# Altium integrated library TI Power Management Supervisor and Reset IC.IntLib: 819 symbols (part 29 of 30)
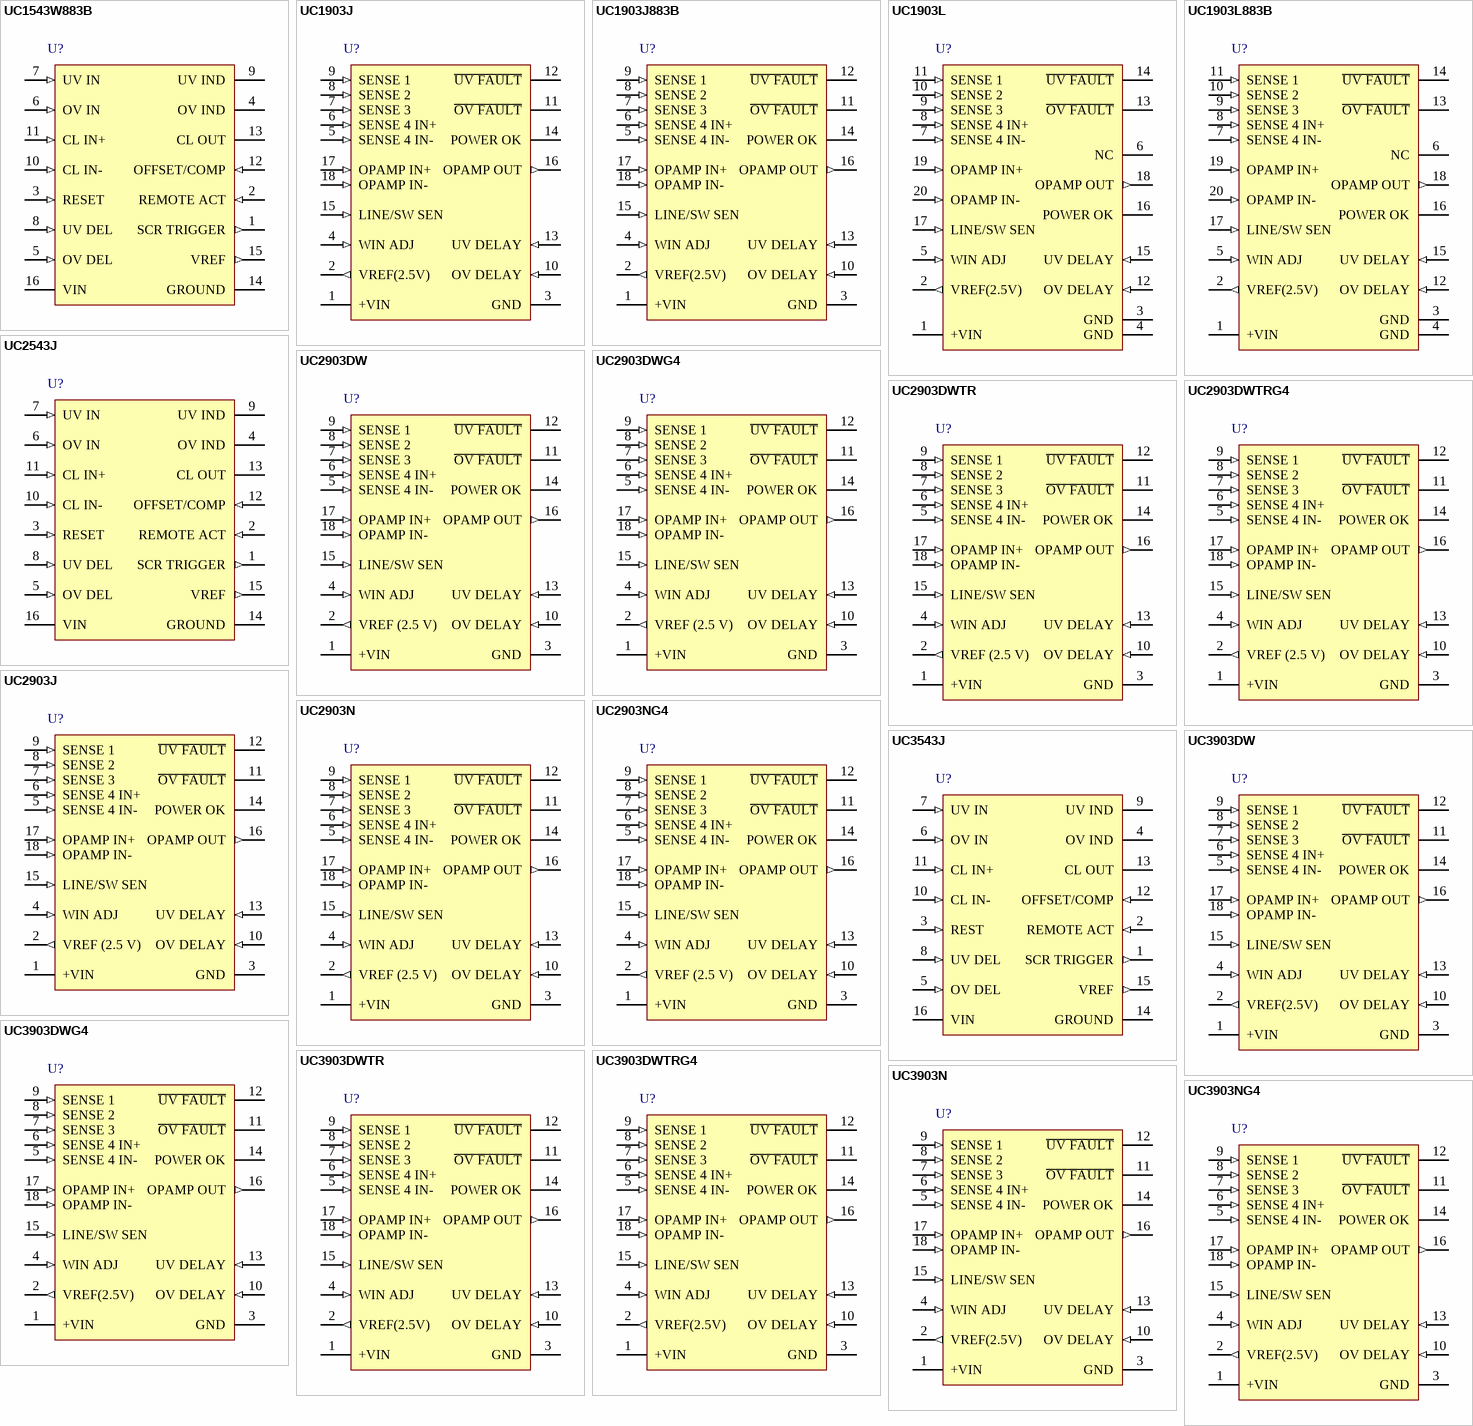
[diagram p49: symbols UC1543W883B to UC3903NG4]

## UC2903DWTRG4
designator U?
Quad Supply and Line Monitor, 4 Supply Monitored, -40 to 85 degC, 18-pin SOIC (DW), Green (RoHS & no Sb/Br); Manufacturer: Texas Instruments; PartNumber: UC2903DWTRG4; # of supplies monitored: 4; Iq(Typ)(uA): 7000; Output Driver Type / Reset Output: Active-low, Open-drain; Rating: Catalog; Reset Threshold Accuracy(%): 3; SubFamily: Supervisor and Reset IC; Threshold Voltage 1 (typ)(Typ)(V): 1.8; Threshold Voltage 2 (typ)(Typ)(V): Adjustable; Time Delay(ms): Programmable; VCC(Max)(V): 40; VCC(Min)(V): 8; DatasheetVersion: SLUS233A; PackageVersion: revG, Jan-2011; PackageReference: DW18; PackageDescription: 18-Pin Plastic Small Outline Integrated Circuit, 11.6 x 7.5 mm, Pitch 1.27 mm Pitch; Supplier 1: Digi-Key; Supplier Part Number 1: UC2903DWTRG4-ND; Supplier 2: Newark; Supplier Part Number 2: 63K6704; Supplier 3: Mouser; Supplier Part Number 3: 595-UC2903DWTRG4; Threshold Voltage 3 (typ)(Typ)(V): Adjustable; Threshold Voltage 4 (typ)(Typ)(V): Adjustable; Mounting Technology: Surface Mount; Code_JEDEC: MS-013-AB; ComponentLink1Description: Datasheet; ComponentLink1URL: http://www.ti.com/general/docs/lit/getliterature.tsp?genericPartNumber=UC2903&fileType=pdf
footprint DW18_N (SOIC, 18-Leads, Body 11.6x7.5mm, Pitch 1.27mm, IPC Medium Density)
footprint DW18_L (SOIC, 18-Leads, Body 11.6x7.5mm, Pitch 1.27mm, IPC High Density)
footprint DW18_M (SOIC, 18-Leads, Body 11.6x7.5mm, Pitch 1.27mm, IPC Low Density)
pins: 1 +VIN (power), 2 VREF (2.5 V) (out), 3 GND (power), 4 WIN ADJ (in), 5 SENSE 4 IN- (in), 6 SENSE 4 IN+ (in), 7 SENSE 3 (in), 8 SENSE 2 (in), 9 SENSE 1 (in), 10 OV DELAY (in), 11 ~{OV FAULT} (oc), 12 ~{UV FAULT} (oc), 13 UV DELAY (in), 14 POWER OK (oc), 15 LINE/SW SEN (in), 16 OPAMP OUT (out), 17 OPAMP IN+ (in), 18 OPAMP IN- (in)

## UC2903J
designator U?
Quad Supply and Line Monitor, 4 Supply Monitored, -40 to 85 degC, 18-pin CDIP (J); Manufacturer: Texas Instruments; PartNumber: UC2903J; # of supplies monitored: 4; Iq(Typ)(uA): 7000; Output Driver Type / Reset Output: Active-low, Open-drain; Rating: Military; Reset Threshold Accuracy(%): 3; SubFamily: Supervisor and Reset IC; Threshold Voltage 1 (typ)(Typ)(V): 1.8; Threshold Voltage 2 (typ)(Typ)(V): Adjustable; Time Delay(ms): Programmable; VCC(Max)(V): 40; VCC(Min)(V): 8; DatasheetVersion: SLUS233A; PackageVersion: revF, Mar-2003; PackageReference: J18; PackageDescription: 18-Pin, Ceramic Dual In-Line Package, Row Spacing 7.62 mm, Pitch 2.54 mm; Threshold Voltage 3 (typ)(Typ)(V): Adjustable; Threshold Voltage 4 (typ)(Typ)(V): Adjustable; Mounting Technology: Through Hole; ComponentLink1Description: Datasheet; ComponentLink1URL: http://www.ti.com/general/docs/lit/getliterature.tsp?genericPartNumber=UC2903M&fileType=pdf
footprint J18 (DIP, 18-Leads, Row Spacing 7.62mm, Pitch 2.54mm, Body 24.1x6.7mm)
pins: 1 +VIN (power), 2 VREF (2.5 V) (out), 3 GND (power), 4 WIN ADJ (in), 5 SENSE 4 IN- (in), 6 SENSE 4 IN+ (in), 7 SENSE 3 (in), 8 SENSE 2 (in), 9 SENSE 1 (in), 10 OV DELAY (in), 11 ~{OV FAULT} (oc), 12 ~{UV FAULT} (oc), 13 UV DELAY (in), 14 POWER OK (oc), 15 LINE/SW SEN (in), 16 OPAMP OUT (out), 17 OPAMP IN+ (in), 18 OPAMP IN- (in)

## UC2903N
designator U?
Quad Supply and Line Monitor, 4 Supply Monitored, -40 to 85 degC, 18-pin PDIP (N), Green (RoHS & no Sb/Br); Manufacturer: Texas Instruments; PartNumber: UC2903N; # of supplies monitored: 4; Iq(Typ)(uA): 7000; Output Driver Type / Reset Output: Active-low, Open-drain; Rating: Catalog; Reset Threshold Accuracy(%): 3; SubFamily: Supervisor and Reset IC; Threshold Voltage 1 (typ)(Typ)(V): 1.8; Threshold Voltage 2 (typ)(Typ)(V): Adjustable; Time Delay(ms): Programmable; VCC(Max)(V): 40; VCC(Min)(V): 8; DatasheetVersion: SLUS233A; PackageVersion: revE, Dec-2002; PackageReference: N18; PackageDescription: 18-Pin Plastic Dual-In-Line Package, Row Spacing 7.62 mm, Pitch 2.54 mm; Supplier 1: Digi-Key; Supplier Part Number 1: 296-11207-5-ND; Supplier 2: Newark; Supplier Part Number 2: 77C3086; Supplier 3: Mouser; Supplier Part Number 3: 595-UC2903N; Threshold Voltage 3 (typ)(Typ)(V): Adjustable; Threshold Voltage 4 (typ)(Typ)(V): Adjustable; Mounting Technology: Through Hole; Code_JEDEC: MS-001-AC*; ComponentLink1Description: Datasheet; ComponentLink1URL: http://www.ti.com/general/docs/lit/getliterature.tsp?genericPartNumber=UC2903&fileType=pdf
footprint N18 (DIP, 18-Leads, Row Spacing 7.62mm, Pitch 2.54mm, Body 22.5x6.4mm)
pins: 1 +VIN (power), 2 VREF (2.5 V) (out), 3 GND (power), 4 WIN ADJ (in), 5 SENSE 4 IN- (in), 6 SENSE 4 IN+ (in), 7 SENSE 3 (in), 8 SENSE 2 (in), 9 SENSE 1 (in), 10 OV DELAY (in), 11 ~{OV FAULT} (oc), 12 ~{UV FAULT} (oc), 13 UV DELAY (in), 14 POWER OK (oc), 15 LINE/SW SEN (in), 16 OPAMP OUT (out), 17 OPAMP IN+ (in), 18 OPAMP IN- (in)

## UC2903NG4
designator U?
Quad Supply and Line Monitor, 4 Supply Monitored, -40 to 85 degC, 18-pin PDIP (N), Green (RoHS & no Sb/Br); Manufacturer: Texas Instruments; PartNumber: UC2903NG4; # of supplies monitored: 4; Iq(Typ)(uA): 7000; Output Driver Type / Reset Output: Active-low, Open-drain; Rating: Catalog; Reset Threshold Accuracy(%): 3; SubFamily: Supervisor and Reset IC; Threshold Voltage 1 (typ)(Typ)(V): 1.8; Threshold Voltage 2 (typ)(Typ)(V): Adjustable; Time Delay(ms): Programmable; VCC(Max)(V): 40; VCC(Min)(V): 8; DatasheetVersion: SLUS233A; PackageVersion: revE, Dec-2002; PackageReference: N18; PackageDescription: 18-Pin Plastic Dual-In-Line Package, Row Spacing 7.62 mm, Pitch 2.54 mm; Supplier 1: Digi-Key; Supplier Part Number 1: UC2903NG4-ND; Supplier 2: Newark; Supplier Part Number 2: 66K4913; Supplier 3: Mouser; Supplier Part Number 3: 595-UC2903NG4; Threshold Voltage 3 (typ)(Typ)(V): Adjustable; Threshold Voltage 4 (typ)(Typ)(V): Adjustable; Mounting Technology: Through Hole; Code_JEDEC: MS-001-AC*; ComponentLink1Description: Datasheet; ComponentLink1URL: http://www.ti.com/general/docs/lit/getliterature.tsp?genericPartNumber=UC2903&fileType=pdf
footprint N18 (DIP, 18-Leads, Row Spacing 7.62mm, Pitch 2.54mm, Body 22.5x6.4mm)
pins: 1 +VIN (power), 2 VREF (2.5 V) (out), 3 GND (power), 4 WIN ADJ (in), 5 SENSE 4 IN- (in), 6 SENSE 4 IN+ (in), 7 SENSE 3 (in), 8 SENSE 2 (in), 9 SENSE 1 (in), 10 OV DELAY (in), 11 ~{OV FAULT} (oc), 12 ~{UV FAULT} (oc), 13 UV DELAY (in), 14 POWER OK (oc), 15 LINE/SW SEN (in), 16 OPAMP OUT (out), 17 OPAMP IN+ (in), 18 OPAMP IN- (in)

## UC3543J
designator U?
Power Supply Supervisory Circuit, 1 Supply Monitored, 0 to 70 degC, 16-pin CDIP (J); Manufacturer: Texas Instruments; PartNumber: UC3543J; # of supplies monitored: 1; Iq(Typ)(uA): 7000; Output Driver Type / Reset Output: Active-low, Open-drain; Rating: Military; SubFamily: Supervisor and Reset IC; Threshold Voltage 1 (typ)(Typ)(V): 2.5; Time Delay(ms): Programmable; VCC(Max)(V): 40; VCC(Min)(V): 4.5; DatasheetVersion: SLUS188A; PackageVersion: revF, Mar-2003; PackageReference: J16; PackageDescription: 16-Pin, Ceramic Dual In-Line Package, Row Spacing 7.62 mm, Pitch 2.54 mm; Reset Threshold Accuracy(%): 1; Mounting Technology: Through Hole; ComponentLink1Description: Datasheet; ComponentLink1URL: http://www.ti.com/general/docs/lit/getliterature.tsp?genericPartNumber=UC3543M&fileType=pdf
footprint J16 (DIP, 16-Leads, Row Spacing 7.62mm, Pitch 2.54mm, Body 21.3x6.9mm)
pins: 1 SCR TRIGGER (out), 2 REMOTE ACT (in), 3 REST (in), 4 OV IND (oc), 5 OV DEL (in), 6 OV IN (in), 7 UV IN (in), 8 UV DEL (in), 9 UV IND (oc), 10 CL IN- (in), 11 CL IN+ (in), 12 OFFSET/COMP (in), 13 CL OUT (oc), 14 GROUND (power), 15 VREF (out), 16 VIN (power)

## UC3903DW
designator U?
Quad Supply and Line Monitor, 4 Supply Monitored, 0 to 70 degC, 18-pin SOIC (DW), Green (RoHS & no Sb/Br); Manufacturer: Texas Instruments; PartNumber: UC3903DW; # of supplies monitored: 4; Iq(Typ)(uA): 7000; Output Driver Type / Reset Output: Active-low, Open-drain; Rating: Catalog; Reset Threshold Accuracy(%): 5; SubFamily: Supervisor and Reset IC; Threshold Voltage 1 (typ)(Typ)(V): 1.8; Threshold Voltage 2 (typ)(Typ)(V): Adjustable; Time Delay(ms): Programmable; VCC(Max)(V): 40; VCC(Min)(V): 8; DatasheetVersion: SLUS233A; PackageVersion: revG, Jan-2011; PackageReference: DW18; PackageDescription: 18-Pin Plastic Small Outline Integrated Circuit, 11.6 x 7.5 mm, Pitch 1.27 mm Pitch; Supplier 1: Digi-Key; Supplier Part Number 1: 296-2642-5-ND; Supplier 2: Newark; Supplier Part Number 2: 77C3460; Supplier 3: Mouser; Supplier Part Number 3: 595-UC3903DW; Threshold Voltage 3 (typ)(Typ)(V): Adjustable; Threshold Voltage 4 (typ)(Typ)(V): Adjustable; Mounting Technology: Surface Mount; Code_JEDEC: MS-013-AB; ComponentLink1Description: Datasheet; ComponentLink1URL: http://www.ti.com/general/docs/lit/getliterature.tsp?genericPartNumber=UC3903&fileType=pdf
footprint DW18_N (SOIC, 18-Leads, Body 11.6x7.5mm, Pitch 1.27mm, IPC Medium Density)
footprint DW18_L (SOIC, 18-Leads, Body 11.6x7.5mm, Pitch 1.27mm, IPC High Density)
footprint DW18_M (SOIC, 18-Leads, Body 11.6x7.5mm, Pitch 1.27mm, IPC Low Density)
pins: 1 +VIN (power), 2 VREF(2.5V) (out), 3 GND (power), 4 WIN ADJ (in), 5 SENSE 4 IN- (in), 6 SENSE 4 IN+ (in), 7 SENSE 3 (in), 8 SENSE 2 (in), 9 SENSE 1 (in), 10 OV DELAY (in), 11 ~{OV FAULT} (oc), 12 ~{UV FAULT} (oc), 13 UV DELAY (in), 14 POWER OK (oc), 15 LINE/SW SEN (in), 16 OPAMP OUT (out), 17 OPAMP IN+ (in), 18 OPAMP IN- (in)

## UC3903DWG4
designator U?
Quad Supply and Line Monitor, 4 Supply Monitored, 0 to 70 degC, 18-pin SOIC (DW), Green (RoHS & no Sb/Br); Manufacturer: Texas Instruments; PartNumber: UC3903DWG4; # of supplies monitored: 4; Iq(Typ)(uA): 7000; Output Driver Type / Reset Output: Active-low, Open-drain; Rating: Catalog; Reset Threshold Accuracy(%): 5; SubFamily: Supervisor and Reset IC; Threshold Voltage 1 (typ)(Typ)(V): 1.8; Threshold Voltage 2 (typ)(Typ)(V): Adjustable; Time Delay(ms): Programmable; VCC(Max)(V): 40; VCC(Min)(V): 8; DatasheetVersion: SLUS233A; PackageVersion: revG, Jan-2011; PackageReference: DW18; PackageDescription: 18-Pin Plastic Small Outline Integrated Circuit, 11.6 x 7.5 mm, Pitch 1.27 mm Pitch; Supplier 1: Digi-Key; Supplier Part Number 1: UC3903DWG4-ND; Supplier 2: Newark; Supplier Part Number 2: 70K6036; Supplier 3: Mouser; Supplier Part Number 3: 595-UC3903DWG4; Threshold Voltage 3 (typ)(Typ)(V): Adjustable; Threshold Voltage 4 (typ)(Typ)(V): Adjustable; Mounting Technology: Surface Mount; Code_JEDEC: MS-013-AB; ComponentLink1Description: Datasheet; ComponentLink1URL: http://www.ti.com/general/docs/lit/getliterature.tsp?genericPartNumber=UC3903&fileType=pdf
footprint DW18_N (SOIC, 18-Leads, Body 11.6x7.5mm, Pitch 1.27mm, IPC Medium Density)
footprint DW18_L (SOIC, 18-Leads, Body 11.6x7.5mm, Pitch 1.27mm, IPC High Density)
footprint DW18_M (SOIC, 18-Leads, Body 11.6x7.5mm, Pitch 1.27mm, IPC Low Density)
pins: 1 +VIN (power), 2 VREF(2.5V) (out), 3 GND (power), 4 WIN ADJ (in), 5 SENSE 4 IN- (in), 6 SENSE 4 IN+ (in), 7 SENSE 3 (in), 8 SENSE 2 (in), 9 SENSE 1 (in), 10 OV DELAY (in), 11 ~{OV FAULT} (oc), 12 ~{UV FAULT} (oc), 13 UV DELAY (in), 14 POWER OK (oc), 15 LINE/SW SEN (in), 16 OPAMP OUT (out), 17 OPAMP IN+ (in), 18 OPAMP IN- (in)

## UC3903DWTR
designator U?
Quad Supply and Line Monitor, 4 Supply Monitored, 0 to 70 degC, 18-pin SOIC (DW), Green (RoHS & no Sb/Br); Manufacturer: Texas Instruments; PartNumber: UC3903DWTR; # of supplies monitored: 4; Iq(Typ)(uA): 7000; Output Driver Type / Reset Output: Active-low, Open-drain; Rating: Catalog; Reset Threshold Accuracy(%): 5; SubFamily: Supervisor and Reset IC; Threshold Voltage 1 (typ)(Typ)(V): 1.8; Threshold Voltage 2 (typ)(Typ)(V): Adjustable; Time Delay(ms): Programmable; VCC(Max)(V): 40; VCC(Min)(V): 8; DatasheetVersion: SLUS233A; PackageVersion: revG, Jan-2011; PackageReference: DW18; PackageDescription: 18-Pin Plastic Small Outline Integrated Circuit, 11.6 x 7.5 mm, Pitch 1.27 mm Pitch; Supplier 1: Digi-Key; Supplier Part Number 1: 296-29843-2-ND; Supplier 2: Digi-Key; Supplier Part Number 2: 296-29843-1-ND; Supplier 3: Digi-Key; Supplier Part Number 3: 296-29843-6-ND; Supplier 4: Newark; Supplier Part Number 4: 77C3461; Supplier 5: Mouser; Supplier Part Number 5: 595-UC3903DWTR; Threshold Voltage 3 (typ)(Typ)(V): Adjustable; Threshold Voltage 4 (typ)(Typ)(V): Adjustable; Mounting Technology: Surface Mount; Code_JEDEC: MS-013-AB; ComponentLink1Description: Datasheet; ComponentLink1URL: http://www.ti.com/general/docs/lit/getliterature.tsp?genericPartNumber=UC3903&fileType=pdf
footprint DW18_N (SOIC, 18-Leads, Body 11.6x7.5mm, Pitch 1.27mm, IPC Medium Density)
footprint DW18_L (SOIC, 18-Leads, Body 11.6x7.5mm, Pitch 1.27mm, IPC High Density)
footprint DW18_M (SOIC, 18-Leads, Body 11.6x7.5mm, Pitch 1.27mm, IPC Low Density)
pins: 1 +VIN (power), 2 VREF(2.5V) (out), 3 GND (power), 4 WIN ADJ (in), 5 SENSE 4 IN- (in), 6 SENSE 4 IN+ (in), 7 SENSE 3 (in), 8 SENSE 2 (in), 9 SENSE 1 (in), 10 OV DELAY (in), 11 ~{OV FAULT} (oc), 12 ~{UV FAULT} (oc), 13 UV DELAY (in), 14 POWER OK (oc), 15 LINE/SW SEN (in), 16 OPAMP OUT (out), 17 OPAMP IN+ (in), 18 OPAMP IN- (in)

## UC3903DWTRG4
designator U?
Quad Supply and Line Monitor, 4 Supply Monitored, 0 to 70 degC, 18-pin SOIC (DW), Green (RoHS & no Sb/Br); Manufacturer: Texas Instruments; PartNumber: UC3903DWTRG4; # of supplies monitored: 4; Iq(Typ)(uA): 7000; Output Driver Type / Reset Output: Active-low, Open-drain; Rating: Catalog; Reset Threshold Accuracy(%): 5; SubFamily: Supervisor and Reset IC; Threshold Voltage 1 (typ)(Typ)(V): 1.8; Threshold Voltage 2 (typ)(Typ)(V): Adjustable; Time Delay(ms): Programmable; VCC(Max)(V): 40; VCC(Min)(V): 8; DatasheetVersion: SLUS233A; PackageVersion: revG, Jan-2011; PackageReference: DW18; PackageDescription: 18-Pin Plastic Small Outline Integrated Circuit, 11.6 x 7.5 mm, Pitch 1.27 mm Pitch; Supplier 1: Digi-Key; Supplier Part Number 1: UC3903DWTRG4-ND; Supplier 2: Newark; Supplier Part Number 2: 63K6764; Supplier 3: Mouser; Supplier Part Number 3: 595-UC3903DWTRG4; Threshold Voltage 3 (typ)(Typ)(V): Adjustable; Threshold Voltage 4 (typ)(Typ)(V): Adjustable; Mounting Technology: Surface Mount; Code_JEDEC: MS-013-AB; ComponentLink1Description: Datasheet; ComponentLink1URL: http://www.ti.com/general/docs/lit/getliterature.tsp?genericPartNumber=UC3903&fileType=pdf
footprint DW18_N (SOIC, 18-Leads, Body 11.6x7.5mm, Pitch 1.27mm, IPC Medium Density)
footprint DW18_L (SOIC, 18-Leads, Body 11.6x7.5mm, Pitch 1.27mm, IPC High Density)
footprint DW18_M (SOIC, 18-Leads, Body 11.6x7.5mm, Pitch 1.27mm, IPC Low Density)
pins: 1 +VIN (power), 2 VREF(2.5V) (out), 3 GND (power), 4 WIN ADJ (in), 5 SENSE 4 IN- (in), 6 SENSE 4 IN+ (in), 7 SENSE 3 (in), 8 SENSE 2 (in), 9 SENSE 1 (in), 10 OV DELAY (in), 11 ~{OV FAULT} (oc), 12 ~{UV FAULT} (oc), 13 UV DELAY (in), 14 POWER OK (oc), 15 LINE/SW SEN (in), 16 OPAMP OUT (out), 17 OPAMP IN+ (in), 18 OPAMP IN- (in)

## UC3903N
designator U?
Quad Supply and Line Monitor, 4 Supply Monitored, 0 to 70 degC, 18-pin PDIP (N), Green (RoHS & no Sb/Br); Manufacturer: Texas Instruments; PartNumber: UC3903N; # of supplies monitored: 4; Iq(Typ)(uA): 7000; Output Driver Type / Reset Output: Active-low, Open-drain; Rating: Catalog; Reset Threshold Accuracy(%): 5; SubFamily: Supervisor and Reset IC; Threshold Voltage 1 (typ)(Typ)(V): 1.8; Threshold Voltage 2 (typ)(Typ)(V): Adjustable; Time Delay(ms): Programmable; VCC(Max)(V): 40; VCC(Min)(V): 8; DatasheetVersion: SLUS233A; PackageVersion: revE, Dec-2002; PackageReference: N18; PackageDescription: 18-Pin Plastic Dual-In-Line Package, Row Spacing 7.62 mm, Pitch 2.54 mm; Supplier 1: Digi-Key; Supplier Part Number 1: 296-11342-5-ND; Supplier 2: Farnell; Supplier Part Number 2: 1755668; Supplier 3: Newark; Supplier Part Number 3: 77C3462; Supplier 4: Mouser; Supplier Part Number 4: 595-UC3903N; Threshold Voltage 3 (typ)(Typ)(V): Adjustable; Threshold Voltage 4 (typ)(Typ)(V): Adjustable; Mounting Technology: Through Hole; Code_JEDEC: MS-001-AC*; ComponentLink1Description: Datasheet; ComponentLink1URL: http://www.ti.com/general/docs/lit/getliterature.tsp?genericPartNumber=UC3903&fileType=pdf
footprint N18 (DIP, 18-Leads, Row Spacing 7.62mm, Pitch 2.54mm, Body 22.5x6.4mm)
pins: 1 +VIN (power), 2 VREF(2.5V) (out), 3 GND (power), 4 WIN ADJ (in), 5 SENSE 4 IN- (in), 6 SENSE 4 IN+ (in), 7 SENSE 3 (in), 8 SENSE 2 (in), 9 SENSE 1 (in), 10 OV DELAY (in), 11 ~{OV FAULT} (oc), 12 ~{UV FAULT} (oc), 13 UV DELAY (in), 14 POWER OK (oc), 15 LINE/SW SEN (in), 16 OPAMP OUT (out), 17 OPAMP IN+ (in), 18 OPAMP IN- (in)

## UC3903NG4
designator U?
Quad Supply and Line Monitor, 4 Supply Monitored, 0 to 70 degC, 18-pin PDIP (N), Green (RoHS & no Sb/Br); Manufacturer: Texas Instruments; PartNumber: UC3903NG4; # of supplies monitored: 4; Iq(Typ)(uA): 7000; Output Driver Type / Reset Output: Active-low, Open-drain; Rating: Catalog; Reset Threshold Accuracy(%): 5; SubFamily: Supervisor and Reset IC; Threshold Voltage 1 (typ)(Typ)(V): 1.8; Threshold Voltage 2 (typ)(Typ)(V): Adjustable; Time Delay(ms): Programmable; VCC(Max)(V): 40; VCC(Min)(V): 8; DatasheetVersion: SLUS233A; PackageVersion: revE, Dec-2002; PackageReference: N18; PackageDescription: 18-Pin Plastic Dual-In-Line Package, Row Spacing 7.62 mm, Pitch 2.54 mm; Supplier 1: Digi-Key; Supplier Part Number 1: UC3903NG4-ND; Supplier 2: Newark; Supplier Part Number 2: 66K4933; Supplier 3: Mouser; Supplier Part Number 3: 595-UC3903NG4; Threshold Voltage 3 (typ)(Typ)(V): Adjustable; Threshold Voltage 4 (typ)(Typ)(V): Adjustable; Mounting Technology: Through Hole; Code_JEDEC: MS-001-AC*; ComponentLink1Description: Datasheet; ComponentLink1URL: http://www.ti.com/general/docs/lit/getliterature.tsp?genericPartNumber=UC3903&fileType=pdf
footprint N18 (DIP, 18-Leads, Row Spacing 7.62mm, Pitch 2.54mm, Body 22.5x6.4mm)
pins: 1 +VIN (power), 2 VREF(2.5V) (out), 3 GND (power), 4 WIN ADJ (in), 5 SENSE 4 IN- (in), 6 SENSE 4 IN+ (in), 7 SENSE 3 (in), 8 SENSE 2 (in), 9 SENSE 1 (in), 10 OV DELAY (in), 11 ~{OV FAULT} (oc), 12 ~{UV FAULT} (oc), 13 UV DELAY (in), 14 POWER OK (oc), 15 LINE/SW SEN (in), 16 OPAMP OUT (out), 17 OPAMP IN+ (in), 18 OPAMP IN- (in)

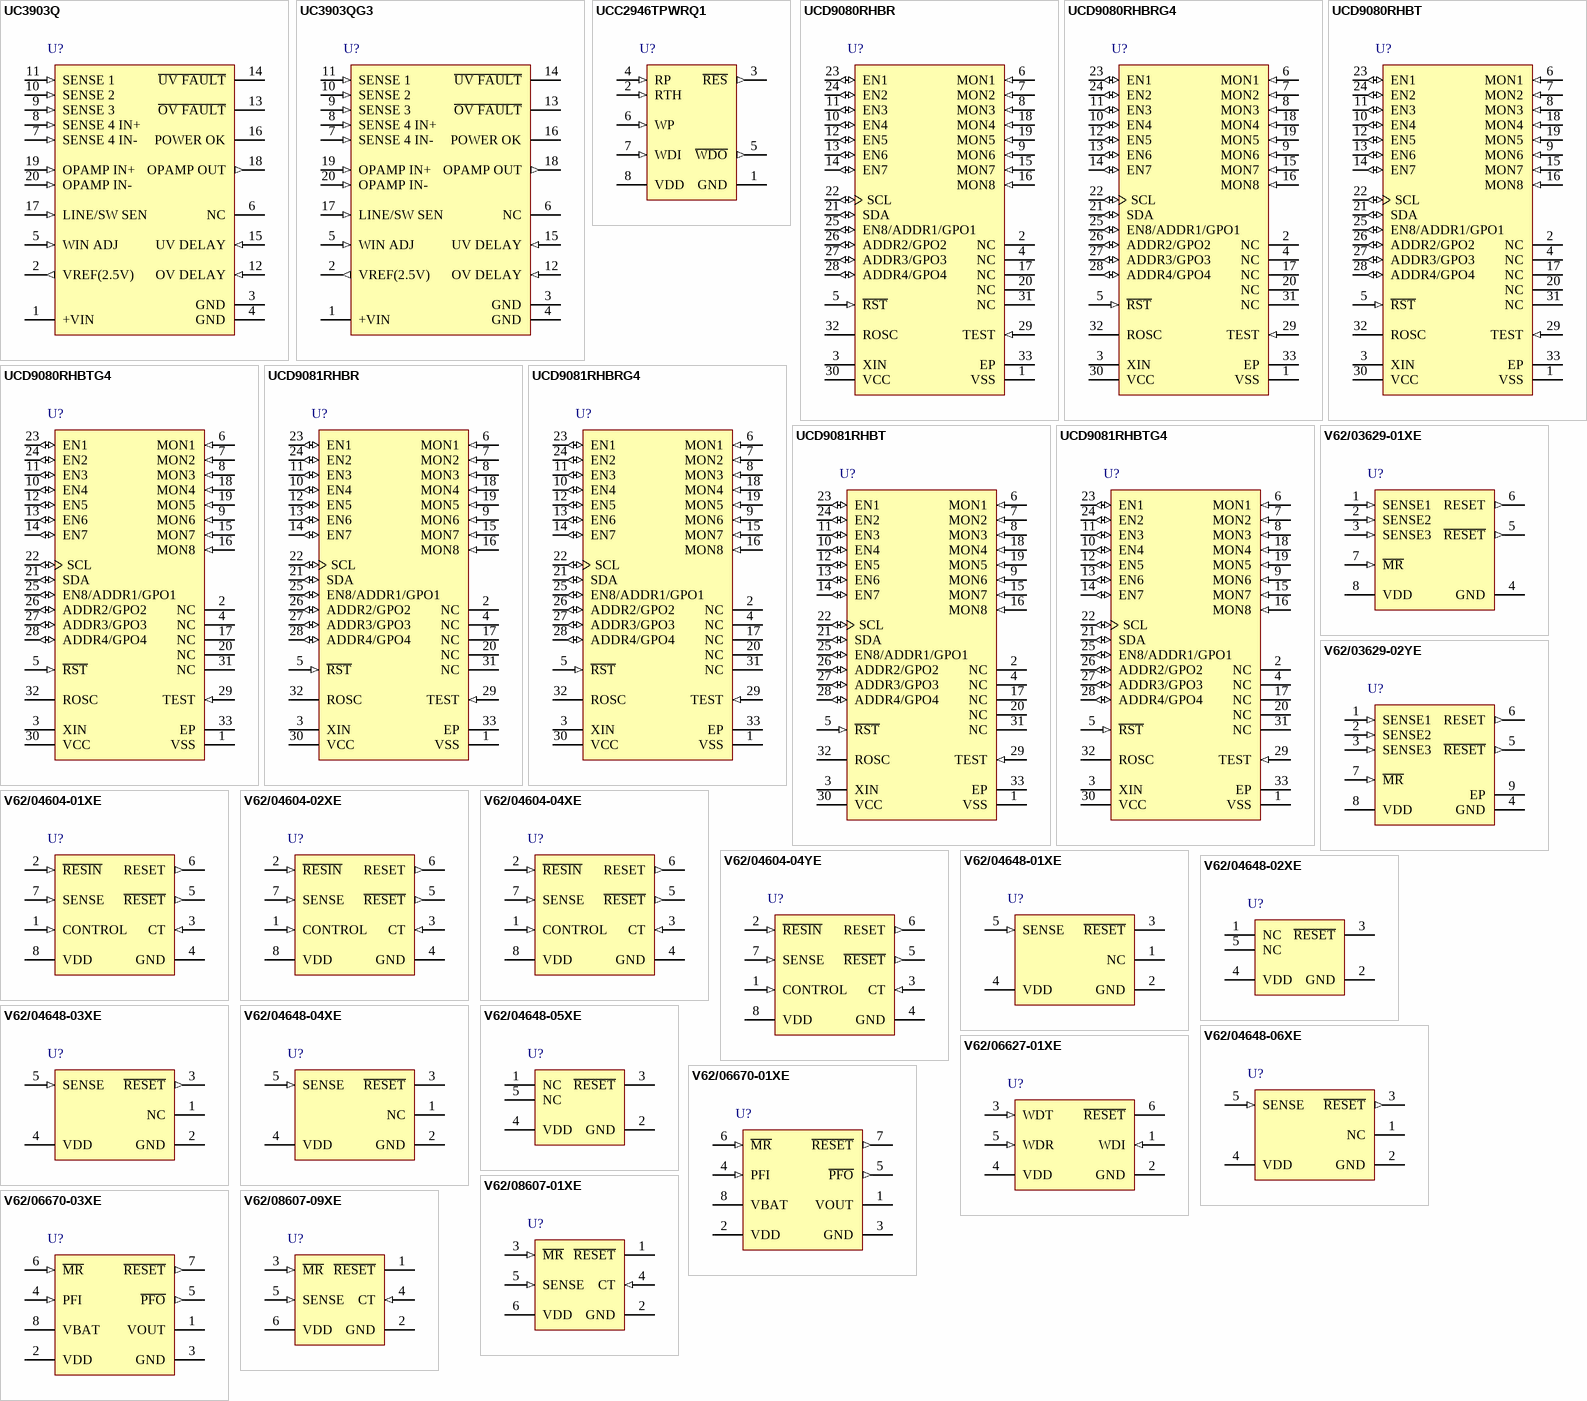
[diagram p21: symbols UC3903Q to V62/08607-09XE]

## UC3903Q
designator U?
Quad Supply and Line Monitor, 4 Supply Monitored, 0 to 70 degC, 20-pin PLCC (FN), Green (RoHS & no Sb/Br); Manufacturer: Texas Instruments; PartNumber: UC3903Q; # of supplies monitored: 4; Iq(Typ)(uA): 7000; Output Driver Type / Reset Output: Active-low, Open-drain; Rating: Catalog; Reset Threshold Accuracy(%): 5; SubFamily: Supervisor and Reset IC; Threshold Voltage 1 (typ)(Typ)(V): 1.8; Threshold Voltage 2 (typ)(Typ)(V): Adjustable; Time Delay(ms): Programmable; VCC(Max)(V): 40; VCC(Min)(V): 8; DatasheetVersion: SLUS233A; PackageVersion: revB, Mar-1995; PackageReference: FN20; PackageDescription: 20-Pin Plastic Leaded Chip Carrier, 1.27 mm Pitch; Supplier 1: Digi-Key; Supplier Part Number 1: UC3903Q-ND; Supplier 2: Newark; Supplier Part Number 2: 77C3463; Supplier 3: Mouser; Supplier Part Number 3: 595-UC3903Q; Threshold Voltage 3 (typ)(Typ)(V): Adjustable; Threshold Voltage 4 (typ)(Typ)(V): Adjustable; Mounting Technology: Surface Mount; Code_JEDEC: MS-018; ComponentLink1Description: Datasheet; ComponentLink1URL: http://www.ti.com/general/docs/lit/getliterature.tsp?genericPartNumber=UC3903&fileType=pdf
footprint FN20_N (Leaded Chip Carrier, 20-Leads, Body 9x9mm, Pitch 1.27mm, IPC Medium Density)
footprint FN20_L (Leaded Chip Carrier, 20-Leads, Body 9x9mm, Pitch 1.27mm, IPC High Density)
footprint FN20_M (Leaded Chip Carrier, 20-Leads, Body 9x9mm, Pitch 1.27mm, IPC Low Density)
pins: 1 +VIN (power), 2 VREF(2.5V) (out), 3 GND (power), 4 GND (power), 5 WIN ADJ (in), 6 NC, 7 SENSE 4 IN- (in), 8 SENSE 4 IN+ (in), 9 SENSE 3 (in), 10 SENSE 2 (in), 11 SENSE 1 (in), 12 OV DELAY (in), 13 ~{OV FAULT} (oc), 14 ~{UV FAULT} (oc), 15 UV DELAY (in), 16 POWER OK (oc), 17 LINE/SW SEN (in), 18 OPAMP OUT (out), 19 OPAMP IN+ (in), 20 OPAMP IN- (in)

## UC3903QG3
designator U?
Quad Supply and Line Monitor, 4 Supply Monitored, 0 to 70 degC, 20-pin PLCC (FN), Green (RoHS & no Sb/Br); Manufacturer: Texas Instruments; PartNumber: UC3903QG3; # of supplies monitored: 4; Iq(Typ)(uA): 7000; Output Driver Type / Reset Output: Active-low, Open-drain; Rating: Catalog; Reset Threshold Accuracy(%): 5; SubFamily: Supervisor and Reset IC; Threshold Voltage 1 (typ)(Typ)(V): 1.8; Threshold Voltage 2 (typ)(Typ)(V): Adjustable; Time Delay(ms): Programmable; VCC(Max)(V): 40; VCC(Min)(V): 8; DatasheetVersion: SLUS233A; PackageVersion: revB, Mar-1995; PackageReference: FN20; PackageDescription: 20-Pin Plastic Leaded Chip Carrier, 1.27 mm Pitch; Supplier 1: Digi-Key; Supplier Part Number 1: UC3903QG3-ND; Supplier 2: Newark; Supplier Part Number 2: 70K6037; Supplier 3: Mouser; Supplier Part Number 3: 595-UC3903QG3; Threshold Voltage 3 (typ)(Typ)(V): Adjustable; Threshold Voltage 4 (typ)(Typ)(V): Adjustable; Mounting Technology: Surface Mount; Code_JEDEC: MS-018; ComponentLink1Description: Datasheet; ComponentLink1URL: http://www.ti.com/general/docs/lit/getliterature.tsp?genericPartNumber=UC3903&fileType=pdf
footprint FN20_N (Leaded Chip Carrier, 20-Leads, Body 9x9mm, Pitch 1.27mm, IPC Medium Density)
footprint FN20_L (Leaded Chip Carrier, 20-Leads, Body 9x9mm, Pitch 1.27mm, IPC High Density)
footprint FN20_M (Leaded Chip Carrier, 20-Leads, Body 9x9mm, Pitch 1.27mm, IPC Low Density)
pins: 1 +VIN (power), 2 VREF(2.5V) (out), 3 GND (power), 4 GND (power), 5 WIN ADJ (in), 6 NC, 7 SENSE 4 IN- (in), 8 SENSE 4 IN+ (in), 9 SENSE 3 (in), 10 SENSE 2 (in), 11 SENSE 1 (in), 12 OV DELAY (in), 13 ~{OV FAULT} (oc), 14 ~{UV FAULT} (oc), 15 UV DELAY (in), 16 POWER OK (oc), 17 LINE/SW SEN (in), 18 OPAMP OUT (out), 19 OPAMP IN+ (in), 20 OPAMP IN- (in)

## UCC2946TPWRQ1
designator U?
Automotive Catalog Microprocessor Supervisor with Watchdog Timer, 1 Supply Monitored, -40 to 105 degC, 8-pin TSSOP (PW), Green (RoHS & no Sb/Br); Manufacturer: Texas Instruments; PartNumber: UCC2946TPWRQ1; # of supplies monitored: 1; Iq(Typ)(uA): 12; Output Driver Type / Reset Output: Active-low, Push-pull; Reset Threshold Accuracy(%): 2; SubFamily: Supervisor and Reset IC; Threshold Voltage 1 (typ)(Typ)(V): 1.235; Time Delay(ms): Programmable; VCC(Max)(V): 5.5; VCC(Min)(V): 2.1; DatasheetVersion: SGLS273B; PackageVersion: revG, Feb-2011; PackageReference: PW8; PackageDescription: 8-Pin Plastic Thin Small Outline Package 3 x 4.4 mm Body ,0.65 mm Pitch; Supplier 1: Digi-Key; Supplier Part Number 1: 296-23028-2-ND; Supplier 2: Digi-Key; Supplier Part Number 2: 296-23028-1-ND; Supplier 3: Digi-Key; Supplier Part Number 3: 296-23028-6-ND; Supplier 4: Newark; Supplier Part Number 4: 73J8423; Supplier 5: Mouser; Supplier Part Number 5: 595-UCC2946TPWRQ1; Rating: Automotive; Watchdog Timer WDI(sec): Programmable; Mounting Technology: Surface Mount; Code_JEDEC: MO-153; ComponentLink1Description: Datasheet; ComponentLink1URL: http://www.ti.com/general/docs/lit/getliterature.tsp?genericPartNumber=UCC2946-Q1&fileType=pdf
footprint PW8_N (TSOP, 8-Leads, Body 3x4.4mm, Pitch 0.65mm, IPC Medium Density)
footprint PW8_L (TSOP, 8-Leads, Body 3x4.4mm, Pitch 0.65mm, IPC High Density)
footprint PW8_M (TSOP, 8-Leads, Body 3x4.4mm, Pitch 0.65mm, IPC Low Density)
pins: 1 GND (power) "Ground reference for the device", 2 RTH (in) "This input compares its voltage to an internal 1.25-V reference. By using external resistors, a user can program any desired reset threshold.", 3 ~{RES} (out) "This pin is high only if the voltage on the RTH has risen above 1.235 V. Once RTH rises above the threshold, this pin remains low for the reset period. This pin asserts low and remains low if the RTH voltage dips below 1.235 (See Datasheet)", 4 RP (in) "This pin allows the user to program the reset period by adjusting an external capacitor.", 5 ~{WDO} (out) "This pin is the watchdog output. This pin is asserted low if the WDI pin is not strobed or toggled within the watchdog period.", 6 WP (in) "This pin allows the user to program the watchdog period by adjusting an external capacitor.", 7 WDI (in) "This pin is the input to the watchdog timer. If this pin is not toggled or strobed within the watchdog period, W\D\O\ is asserted.", 8 VDD (power) "Supply voltage for the device"

## UCD9080RHBR
designator U?
Power Supply Sequencer and Monitor, 8 Supplies Monitored, -40 to 85 degC, 32-pin QFN (RHB), Green (RoHS & no Sb/Br); Manufacturer: Texas Instruments; PartNumber: UCD9080RHBR; # of supplies monitored: 8; Iq(Typ)(uA): 4500; Rating: Catalog; Sequencing and Monitoring: TRUE; DatasheetVersion: SLVS692E; PackageVersion: revD, Jun-2011; PackageReference: RHB32-3450X3450TP; PackageDescription: 32-Pin Plastic Quad Flat No-Lead, 5 x 5 mm Body, 0.5 mm Pitch, 3.45 x 3.45 mm Exposed Pad; Supplier 1: Digi-Key; Supplier Part Number 1: UCD9080RHBR-ND; Supplier 2: Newark; Supplier Part Number 2: 50M9162; Supplier 3: Mouser; Supplier Part Number 3: 595-UCD9080RHBR; SubFamily: Sequencer; Mounting Technology: Surface Mount; Code_JEDEC: MO-220; ComponentLink1Description: Datasheet; ComponentLink1URL: http://www.ti.com/general/docs/lit/getliterature.tsp?genericPartNumber=UCD9080&fileType=pdf
footprint RHB32-3450X3450TP (QFN, 32-Leads, Body 5x5mm, Pitch 0.5mm, Thermal Pad 3.45x3.45mm, TI Recommended)
pins: 1 VSS (power) "Ground reference", 2 NC "Do not connect.", 3 XIN (power) "Connect to VCC", 4 NC "Not connected internally. Connect to VSS.", 5 ~{RST} (in) "Reset input", 6 MON1 (in) "Analog input for voltage rail 1", 7 MON2 (in) "Analog input for voltage rail 2", 8 MON3 (in) "Analog input for voltage rail 3", 9 MON6 (in) "Analog input for voltage rail 6", 10 EN4 (io) "Voltage rail 4 enable (digital output)", 11 EN3 (io) "Voltage rail 3 enable (digital output)", 12 EN5 (io) "Voltage rail 5 enable (digital output)", 13 EN6 (io) "Voltage rail 6 enable (digital output)", 14 EN7 (io) "Voltage rail 7 enable (digital output)", 15 MON7 (in) "Analog input for voltage rail 7", 16 MON8 (in) "Analog input for voltage rail 8", 17 NC "Not connected internally. Connect to VSS.", 18 MON4 (in) "Analog input for voltage rail 4", 19 MON5 (in) "Analog input for voltage rail 5", 20 NC "Not connected internally. Connect to VSS.", 21 SDA (io) "I2C data (bidirectional). A pullup resistor to 3.3 V is required.", 22 SCL (io) "I2C clock. A pullup rwesistor to 3.3 V is required.", 23 EN1 (io) "Voltage rail 1 enable (digital output)", 24 EN2 (io) "Voltage rail 2 enable (digital output)", 25 EN8/ADDR1/GPO1 (io) "Voltage rail 8 enable (digital output), I2C address select 1, general-purpose digital output 1", 26 ADDR2/GPO2 (io) "I2C address select 2, general-purpose digital output 2", 27 ADDR3/GPO3 (io) "I2C address select 3, general-purpose digital output 3", 28 ADDR4/GPO4 (io) "I2C address select 4, general-purpose digital output 4", 29 TEST (in) "Connect to VSS", 30 VCC (power) "Supply voltage", 31 NC "Not connected internally. Connect to VSS.", 32 ROSC "Internal oscillator frequency adjust. Must use 100-k ohm pullup to VCC for minimum drift and maximum frequency when sampling voltage rails.", 33 EP (power) "Exposed Thermal Pad"

## UCD9080RHBRG4
designator U?
Power Supply Sequencer and Monitor, 8 Supplies Monitored, -40 to 85 degC, 32-pin QFN (RHB), Green (RoHS & no Sb/Br); Manufacturer: Texas Instruments; PartNumber: UCD9080RHBRG4; # of supplies monitored: 8; Iq(Typ)(uA): 4500; Rating: Catalog; Sequencing and Monitoring: TRUE; DatasheetVersion: SLVS692E; PackageVersion: revD, Jun-2011; PackageReference: RHB32-3450X3450TP; PackageDescription: 32-Pin Plastic Quad Flat No-Lead, 5 x 5 mm Body, 0.5 mm Pitch, 3.45 x 3.45 mm Exposed Pad; Supplier 1: Digi-Key; Supplier Part Number 1: 296-24969-2-ND; Supplier 2: Digi-Key; Supplier Part Number 2: 296-24969-1-ND; Supplier 3: Digi-Key; Supplier Part Number 3: 296-24969-6-ND; Supplier 4: Newark; Supplier Part Number 4: 52M8271; Supplier 5: Mouser; Supplier Part Number 5: 595-UCD9080RHBRG4; SubFamily: Sequencer; Mounting Technology: Surface Mount; Code_JEDEC: MO-220; ComponentLink1Description: Datasheet; ComponentLink1URL: http://www.ti.com/general/docs/lit/getliterature.tsp?genericPartNumber=UCD9080&fileType=pdf
footprint RHB32-3450X3450TP (QFN, 32-Leads, Body 5x5mm, Pitch 0.5mm, Thermal Pad 3.45x3.45mm, TI Recommended)
pins: 1 VSS (power) "Ground reference", 2 NC "Do not connect.", 3 XIN (power) "Connect to VCC", 4 NC "Not connected internally. Connect to VSS.", 5 ~{RST} (in) "Reset input", 6 MON1 (in) "Analog input for voltage rail 1", 7 MON2 (in) "Analog input for voltage rail 2", 8 MON3 (in) "Analog input for voltage rail 3", 9 MON6 (in) "Analog input for voltage rail 6", 10 EN4 (io) "Voltage rail 4 enable (digital output)", 11 EN3 (io) "Voltage rail 3 enable (digital output)", 12 EN5 (io) "Voltage rail 5 enable (digital output)", 13 EN6 (io) "Voltage rail 6 enable (digital output)", 14 EN7 (io) "Voltage rail 7 enable (digital output)", 15 MON7 (in) "Analog input for voltage rail 7", 16 MON8 (in) "Analog input for voltage rail 8", 17 NC "Not connected internally. Connect to VSS.", 18 MON4 (in) "Analog input for voltage rail 4", 19 MON5 (in) "Analog input for voltage rail 5", 20 NC "Not connected internally. Connect to VSS.", 21 SDA (io) "I2C data (bidirectional). A pullup resistor to 3.3 V is required.", 22 SCL (io) "I2C clock. A pullup rwesistor to 3.3 V is required.", 23 EN1 (io) "Voltage rail 1 enable (digital output)", 24 EN2 (io) "Voltage rail 2 enable (digital output)", 25 EN8/ADDR1/GPO1 (io) "Voltage rail 8 enable (digital output), I2C address select 1, general-purpose digital output 1", 26 ADDR2/GPO2 (io) "I2C address select 2, general-purpose digital output 2", 27 ADDR3/GPO3 (io) "I2C address select 3, general-purpose digital output 3", 28 ADDR4/GPO4 (io) "I2C address select 4, general-purpose digital output 4", 29 TEST (in) "Connect to VSS", 30 VCC (power) "Supply voltage", 31 NC "Not connected internally. Connect to VSS.", 32 ROSC "Internal oscillator frequency adjust. Must use 100-k ohm pullup to VCC for minimum drift and maximum frequency when sampling voltage rails.", 33 EP (power) "Exposed Thermal Pad"

## UCD9080RHBT
designator U?
Power Supply Sequencer and Monitor, 8 Supplies Monitored, -40 to 85 degC, 32-pin QFN (RHB), Green (RoHS & no Sb/Br); Manufacturer: Texas Instruments; PartNumber: UCD9080RHBT; # of supplies monitored: 8; Iq(Typ)(uA): 4500; Rating: Catalog; Sequencing and Monitoring: TRUE; DatasheetVersion: SLVS692E; PackageVersion: revD, Jun-2011; PackageReference: RHB32-3450X3450TP; PackageDescription: 32-Pin Plastic Quad Flat No-Lead, 5 x 5 mm Body, 0.5 mm Pitch, 3.45 x 3.45 mm Exposed Pad; Supplier 1: Digi-Key; Supplier Part Number 1: 296-21690-2-ND; Supplier 2: Digi-Key; Supplier Part Number 2: 296-21690-1-ND; Supplier 3: Newark; Supplier Part Number 3: 50M9163; Supplier 4: Mouser; Supplier Part Number 4: 595-UCD9080RHBT; SubFamily: Sequencer; Mounting Technology: Surface Mount; Code_JEDEC: MO-220; ComponentLink1Description: Datasheet; ComponentLink1URL: http://www.ti.com/general/docs/lit/getliterature.tsp?genericPartNumber=UCD9080&fileType=pdf
footprint RHB32-3450X3450TP (QFN, 32-Leads, Body 5x5mm, Pitch 0.5mm, Thermal Pad 3.45x3.45mm, TI Recommended)
pins: 1 VSS (power) "Ground reference", 2 NC "Do not connect.", 3 XIN (power) "Connect to VCC", 4 NC "Not connected internally. Connect to VSS.", 5 ~{RST} (in) "Reset input", 6 MON1 (in) "Analog input for voltage rail 1", 7 MON2 (in) "Analog input for voltage rail 2", 8 MON3 (in) "Analog input for voltage rail 3", 9 MON6 (in) "Analog input for voltage rail 6", 10 EN4 (io) "Voltage rail 4 enable (digital output)", 11 EN3 (io) "Voltage rail 3 enable (digital output)", 12 EN5 (io) "Voltage rail 5 enable (digital output)", 13 EN6 (io) "Voltage rail 6 enable (digital output)", 14 EN7 (io) "Voltage rail 7 enable (digital output)", 15 MON7 (in) "Analog input for voltage rail 7", 16 MON8 (in) "Analog input for voltage rail 8", 17 NC "Not connected internally. Connect to VSS.", 18 MON4 (in) "Analog input for voltage rail 4", 19 MON5 (in) "Analog input for voltage rail 5", 20 NC "Not connected internally. Connect to VSS.", 21 SDA (io) "I2C data (bidirectional). A pullup resistor to 3.3 V is required.", 22 SCL (io) "I2C clock. A pullup rwesistor to 3.3 V is required.", 23 EN1 (io) "Voltage rail 1 enable (digital output)", 24 EN2 (io) "Voltage rail 2 enable (digital output)", 25 EN8/ADDR1/GPO1 (io) "Voltage rail 8 enable (digital output), I2C address select 1, general-purpose digital output 1", 26 ADDR2/GPO2 (io) "I2C address select 2, general-purpose digital output 2", 27 ADDR3/GPO3 (io) "I2C address select 3, general-purpose digital output 3", 28 ADDR4/GPO4 (io) "I2C address select 4, general-purpose digital output 4", 29 TEST (in) "Connect to VSS", 30 VCC (power) "Supply voltage", 31 NC "Not connected internally. Connect to VSS.", 32 ROSC "Internal oscillator frequency adjust. Must use 100-k ohm pullup to VCC for minimum drift and maximum frequency when sampling voltage rails.", 33 EP (power) "Exposed Thermal Pad"

## UCD9080RHBTG4
designator U?
Power Supply Sequencer and Monitor, 8 Supplies Monitored, -40 to 85 degC, 32-pin QFN (RHB), Green (RoHS & no Sb/Br); Manufacturer: Texas Instruments; PartNumber: UCD9080RHBTG4; # of supplies monitored: 8; Iq(Typ)(uA): 4500; Rating: Catalog; Sequencing and Monitoring: TRUE; DatasheetVersion: SLVS692E; PackageVersion: revD, Jun-2011; PackageReference: RHB32-3450X3450TP; PackageDescription: 32-Pin Plastic Quad Flat No-Lead, 5 x 5 mm Body, 0.5 mm Pitch, 3.45 x 3.45 mm Exposed Pad; Supplier 1: Digi-Key; Supplier Part Number 1: UCD9080RHBTG4-ND; Supplier 2: Farnell; Supplier Part Number 2: 1494901; Supplier 3: Newark; Supplier Part Number 3: 52M8272; Supplier 4: Mouser; Supplier Part Number 4: 595-UCD9080RHBTG4; SubFamily: Sequencer; Mounting Technology: Surface Mount; Code_JEDEC: MO-220; ComponentLink1Description: Datasheet; ComponentLink1URL: http://www.ti.com/general/docs/lit/getliterature.tsp?genericPartNumber=UCD9080&fileType=pdf
footprint RHB32-3450X3450TP (QFN, 32-Leads, Body 5x5mm, Pitch 0.5mm, Thermal Pad 3.45x3.45mm, TI Recommended)
pins: 1 VSS (power) "Ground reference", 2 NC "Do not connect.", 3 XIN (power) "Connect to VCC", 4 NC "Not connected internally. Connect to VSS.", 5 ~{RST} (in) "Reset input", 6 MON1 (in) "Analog input for voltage rail 1", 7 MON2 (in) "Analog input for voltage rail 2", 8 MON3 (in) "Analog input for voltage rail 3", 9 MON6 (in) "Analog input for voltage rail 6", 10 EN4 (io) "Voltage rail 4 enable (digital output)", 11 EN3 (io) "Voltage rail 3 enable (digital output)", 12 EN5 (io) "Voltage rail 5 enable (digital output)", 13 EN6 (io) "Voltage rail 6 enable (digital output)", 14 EN7 (io) "Voltage rail 7 enable (digital output)", 15 MON7 (in) "Analog input for voltage rail 7", 16 MON8 (in) "Analog input for voltage rail 8", 17 NC "Not connected internally. Connect to VSS.", 18 MON4 (in) "Analog input for voltage rail 4", 19 MON5 (in) "Analog input for voltage rail 5", 20 NC "Not connected internally. Connect to VSS.", 21 SDA (io) "I2C data (bidirectional). A pullup resistor to 3.3 V is required.", 22 SCL (io) "I2C clock. A pullup rwesistor to 3.3 V is required.", 23 EN1 (io) "Voltage rail 1 enable (digital output)", 24 EN2 (io) "Voltage rail 2 enable (digital output)", 25 EN8/ADDR1/GPO1 (io) "Voltage rail 8 enable (digital output), I2C address select 1, general-purpose digital output 1", 26 ADDR2/GPO2 (io) "I2C address select 2, general-purpose digital output 2", 27 ADDR3/GPO3 (io) "I2C address select 3, general-purpose digital output 3", 28 ADDR4/GPO4 (io) "I2C address select 4, general-purpose digital output 4", 29 TEST (in) "Connect to VSS", 30 VCC (power) "Supply voltage", 31 NC "Not connected internally. Connect to VSS.", 32 ROSC "Internal oscillator frequency adjust. Must use 100-k ohm pullup to VCC for minimum drift and maximum frequency when sampling voltage rails.", 33 EP (power) "Exposed Thermal Pad"

## UCD9081RHBR
designator U?
Power Supply Sequencer and Monitor with Non-Volatile Error Logging, 8 Supplies Monitored, -40 to 85 degC, 32-pin QFN (RHB), Green (RoHS & no Sb/Br); Manufacturer: Texas Instruments; PartNumber: UCD9081RHBR; # of supplies monitored: 8; Iq(Typ)(uA): 3000; Rating: Catalog; Sequencing and Monitoring: TRUE; DatasheetVersion: SLVS813B; PackageVersion: revD, Jun-2011; PackageReference: RHB32-3450X3450TP; PackageDescription: 32-Pin Plastic Quad Flat No-Lead, 5 x 5 mm Body, 0.5 mm Pitch, 3.45 x 3.45 mm Exposed Pad; Supplier 1: Digi-Key; Supplier Part Number 1: 296-23788-2-ND; Supplier 2: Digi-Key; Supplier Part Number 2: 296-23788-1-ND; Supplier 3: Digi-Key; Supplier Part Number 3: 296-23788-6-ND; Supplier 4: Mouser; Supplier Part Number 4: 595-UCD9081RHBR; SubFamily: Sequencer; Mounting Technology: Surface Mount; Code_JEDEC: MO-220; ComponentLink1Description: Datasheet; ComponentLink1URL: http://www.ti.com/general/docs/lit/getliterature.tsp?genericPartNumber=UCD9081&fileType=pdf
footprint RHB32-3450X3450TP (QFN, 32-Leads, Body 5x5mm, Pitch 0.5mm, Thermal Pad 3.45x3.45mm, TI Recommended)
pins: 1 VSS (power) "Ground reference", 2 NC "Do not connect.", 3 XIN (power) "Connect to VCC", 4 NC "Recommended to connect to VSS, pin is not connected internally", 5 ~{RST} (in) "Reset input.", 6 MON1 (in) "Analog input for voltage rail 1.", 7 MON2 (in) "Analog input for voltage rail 2.", 8 MON3 (in) "Analog input for voltage rail 3.", 9 MON6 (in) "Analog input for voltage rail 6.", 10 EN4 (io) "Voltage rail 4 enable (digital output).", 11 EN3 (io) "Voltage rail 3 enable (digital output).", 12 EN5 (io) "Voltage rail 5 enable (digital output).", 13 EN6 (io) "Voltage rail 6 enable (digital output).", 14 EN7 (io) "Voltage rail 7 enable (digital output).", 15 MON7 (in) "Analog input for voltage rail 7.", 16 MON8 (in) "Analog input for voltage rail 8.", 17 NC "Recommended to connect to VSS, pin is not connected internally", 18 MON4 (in) "Analog input for voltage rail 4.", 19 MON5 (in) "Analog input for voltage rail 5.", 20 NC "Recommended to connect to VSS, pin is not connected internally", 21 SDA (io) "I2C data. Must pull up to 3.3 V.", 22 SCL (io) "I2C clock. Must pull up to 3.3 V.", 23 EN1 (io) "Voltage rail 1 enable (digital output).", 24 EN2 (io) "Voltage rail 2 enable (digital output).", 25 EN8/ADDR1/GPO1 (io) "Voltage rail 8 enable (digital output), I2C address select 1, general-purpose digital output 1", 26 ADDR2/GPO2 (io) "I2C address select 2, general-purpose digital output 2.", 27 ADDR3/GPO3 (io) "I2C address select 3, general-purpose digital output 3.", 28 ADDR4/GPO4 (io) "I2C address select 4, general-purpose digital output 4.", 29 TEST (in) "Connect to VSS", 30 VCC (power) "Supply voltage", 31 NC "Recommended to connect to VSS, pin is not connected internally", 32 ROSC "Internal oscillator frequency adjust. Must use 100-k ohm pullup to VCC for minimum drift and maximum frequency when sampling voltage rails.", 33 EP (power) "Package Pad. Recommended to connect to VSS."

## UCD9081RHBRG4
designator U?
Power Supply Sequencer and Monitor with Non-Volatile Error Logging, 8 Supplies Monitored, -40 to 85 degC, 32-pin QFN (RHB), Green (RoHS & no Sb/Br); Manufacturer: Texas Instruments; PartNumber: UCD9081RHBRG4; # of supplies monitored: 8; Iq(Typ)(uA): 3000; Rating: Catalog; Sequencing and Monitoring: TRUE; DatasheetVersion: SLVS813B; PackageVersion: revD, Jun-2011; PackageReference: RHB32-3450X3450TP; PackageDescription: 32-Pin Plastic Quad Flat No-Lead, 5 x 5 mm Body, 0.5 mm Pitch, 3.45 x 3.45 mm Exposed Pad; Supplier 1: Digi-Key; Supplier Part Number 1: UCD9081RHBRG4-ND; Supplier 2: Newark; Supplier Part Number 2: 34P6601; Supplier 3: Mouser; Supplier Part Number 3: 595-UCD9081RHBRG4; SubFamily: Sequencer; Mounting Technology: Surface Mount; Code_JEDEC: MO-220; ComponentLink1Description: Datasheet; ComponentLink1URL: http://www.ti.com/general/docs/lit/getliterature.tsp?genericPartNumber=UCD9081&fileType=pdf
footprint RHB32-3450X3450TP (QFN, 32-Leads, Body 5x5mm, Pitch 0.5mm, Thermal Pad 3.45x3.45mm, TI Recommended)
pins: 1 VSS (power) "Ground reference", 2 NC "Do not connect.", 3 XIN (power) "Connect to VCC", 4 NC "Recommended to connect to VSS, pin is not connected internally", 5 ~{RST} (in) "Reset input.", 6 MON1 (in) "Analog input for voltage rail 1.", 7 MON2 (in) "Analog input for voltage rail 2.", 8 MON3 (in) "Analog input for voltage rail 3.", 9 MON6 (in) "Analog input for voltage rail 6.", 10 EN4 (io) "Voltage rail 4 enable (digital output).", 11 EN3 (io) "Voltage rail 3 enable (digital output).", 12 EN5 (io) "Voltage rail 5 enable (digital output).", 13 EN6 (io) "Voltage rail 6 enable (digital output).", 14 EN7 (io) "Voltage rail 7 enable (digital output).", 15 MON7 (in) "Analog input for voltage rail 7.", 16 MON8 (in) "Analog input for voltage rail 8.", 17 NC "Recommended to connect to VSS, pin is not connected internally", 18 MON4 (in) "Analog input for voltage rail 4.", 19 MON5 (in) "Analog input for voltage rail 5.", 20 NC "Recommended to connect to VSS, pin is not connected internally", 21 SDA (io) "I2C data. Must pull up to 3.3 V.", 22 SCL (io) "I2C clock. Must pull up to 3.3 V.", 23 EN1 (io) "Voltage rail 1 enable (digital output).", 24 EN2 (io) "Voltage rail 2 enable (digital output).", 25 EN8/ADDR1/GPO1 (io) "Voltage rail 8 enable (digital output), I2C address select 1, general-purpose digital output 1", 26 ADDR2/GPO2 (io) "I2C address select 2, general-purpose digital output 2.", 27 ADDR3/GPO3 (io) "I2C address select 3, general-purpose digital output 3.", 28 ADDR4/GPO4 (io) "I2C address select 4, general-purpose digital output 4.", 29 TEST (in) "Connect to VSS", 30 VCC (power) "Supply voltage", 31 NC "Recommended to connect to VSS, pin is not connected internally", 32 ROSC "Internal oscillator frequency adjust. Must use 100-k ohm pullup to VCC for minimum drift and maximum frequency when sampling voltage rails.", 33 EP (power) "Package Pad. Recommended to connect to VSS."

## UCD9081RHBT
designator U?
Power Supply Sequencer and Monitor with Non-Volatile Error Logging, 8 Supplies Monitored, -40 to 85 degC, 32-pin QFN (RHB), Green (RoHS & no Sb/Br); Manufacturer: Texas Instruments; PartNumber: UCD9081RHBT; # of supplies monitored: 8; Iq(Typ)(uA): 3000; Rating: Catalog; Sequencing and Monitoring: TRUE; DatasheetVersion: SLVS813B; PackageVersion: revD, Jun-2011; PackageReference: RHB32-3450X3450TP; PackageDescription: 32-Pin Plastic Quad Flat No-Lead, 5 x 5 mm Body, 0.5 mm Pitch, 3.45 x 3.45 mm Exposed Pad; Supplier 1: Digi-Key; Supplier Part Number 1: 296-27168-2-ND; Supplier 2: Digi-Key; Supplier Part Number 2: 296-27168-1-ND; Supplier 3: Digi-Key; Supplier Part Number 3: 296-27168-6-ND; Supplier 4: Farnell; Supplier Part Number 4: 1755696; Supplier 5: Newark; Supplier Part Number 5: 12P8082; Supplier 6: Mouser; Supplier Part Number 6: 595-UCD9081RHBT; SubFamily: Sequencer; Mounting Technology: Surface Mount; Code_JEDEC: MO-220; ComponentLink1Description: Datasheet; ComponentLink1URL: http://www.ti.com/general/docs/lit/getliterature.tsp?genericPartNumber=UCD9081&fileType=pdf
footprint RHB32-3450X3450TP (QFN, 32-Leads, Body 5x5mm, Pitch 0.5mm, Thermal Pad 3.45x3.45mm, TI Recommended)
pins: 1 VSS (power) "Ground reference", 2 NC "Do not connect.", 3 XIN (power) "Connect to VCC", 4 NC "Recommended to connect to VSS, pin is not connected internally", 5 ~{RST} (in) "Reset input.", 6 MON1 (in) "Analog input for voltage rail 1.", 7 MON2 (in) "Analog input for voltage rail 2.", 8 MON3 (in) "Analog input for voltage rail 3.", 9 MON6 (in) "Analog input for voltage rail 6.", 10 EN4 (io) "Voltage rail 4 enable (digital output).", 11 EN3 (io) "Voltage rail 3 enable (digital output).", 12 EN5 (io) "Voltage rail 5 enable (digital output).", 13 EN6 (io) "Voltage rail 6 enable (digital output).", 14 EN7 (io) "Voltage rail 7 enable (digital output).", 15 MON7 (in) "Analog input for voltage rail 7.", 16 MON8 (in) "Analog input for voltage rail 8.", 17 NC "Recommended to connect to VSS, pin is not connected internally", 18 MON4 (in) "Analog input for voltage rail 4.", 19 MON5 (in) "Analog input for voltage rail 5.", 20 NC "Recommended to connect to VSS, pin is not connected internally", 21 SDA (io) "I2C data. Must pull up to 3.3 V.", 22 SCL (io) "I2C clock. Must pull up to 3.3 V.", 23 EN1 (io) "Voltage rail 1 enable (digital output).", 24 EN2 (io) "Voltage rail 2 enable (digital output).", 25 EN8/ADDR1/GPO1 (io) "Voltage rail 8 enable (digital output), I2C address select 1, general-purpose digital output 1", 26 ADDR2/GPO2 (io) "I2C address select 2, general-purpose digital output 2.", 27 ADDR3/GPO3 (io) "I2C address select 3, general-purpose digital output 3.", 28 ADDR4/GPO4 (io) "I2C address select 4, general-purpose digital output 4.", 29 TEST (in) "Connect to VSS", 30 VCC (power) "Supply voltage", 31 NC "Recommended to connect to VSS, pin is not connected internally", 32 ROSC "Internal oscillator frequency adjust. Must use 100-k ohm pullup to VCC for minimum drift and maximum frequency when sampling voltage rails.", 33 EP (power) "Package Pad. Recommended to connect to VSS."

## UCD9081RHBTG4
designator U?
Power Supply Sequencer and Monitor with Non-Volatile Error Logging, 8 Supplies Monitored, -40 to 85 degC, 32-pin QFN (RHB), Green (RoHS & no Sb/Br); Manufacturer: Texas Instruments; PartNumber: UCD9081RHBTG4; # of supplies monitored: 8; Iq(Typ)(uA): 3000; Rating: Catalog; Sequencing and Monitoring: TRUE; DatasheetVersion: SLVS813B; PackageVersion: revD, Jun-2011; PackageReference: RHB32-3450X3450TP; PackageDescription: 32-Pin Plastic Quad Flat No-Lead, 5 x 5 mm Body, 0.5 mm Pitch, 3.45 x 3.45 mm Exposed Pad; Supplier 1: Digi-Key; Supplier Part Number 1: UCD9081RHBTG4-ND; Supplier 2: Newark; Supplier Part Number 2: 34P6602; Supplier 3: Mouser; Supplier Part Number 3: 595-UCD9081RHBTG4; SubFamily: Sequencer; Mounting Technology: Surface Mount; Code_JEDEC: MO-220; ComponentLink1Description: Datasheet; ComponentLink1URL: http://www.ti.com/general/docs/lit/getliterature.tsp?genericPartNumber=UCD9081&fileType=pdf
footprint RHB32-3450X3450TP (QFN, 32-Leads, Body 5x5mm, Pitch 0.5mm, Thermal Pad 3.45x3.45mm, TI Recommended)
pins: 1 VSS (power) "Ground reference", 2 NC "Do not connect.", 3 XIN (power) "Connect to VCC", 4 NC "Recommended to connect to VSS, pin is not connected internally", 5 ~{RST} (in) "Reset input.", 6 MON1 (in) "Analog input for voltage rail 1.", 7 MON2 (in) "Analog input for voltage rail 2.", 8 MON3 (in) "Analog input for voltage rail 3.", 9 MON6 (in) "Analog input for voltage rail 6.", 10 EN4 (io) "Voltage rail 4 enable (digital output).", 11 EN3 (io) "Voltage rail 3 enable (digital output).", 12 EN5 (io) "Voltage rail 5 enable (digital output).", 13 EN6 (io) "Voltage rail 6 enable (digital output).", 14 EN7 (io) "Voltage rail 7 enable (digital output).", 15 MON7 (in) "Analog input for voltage rail 7.", 16 MON8 (in) "Analog input for voltage rail 8.", 17 NC "Recommended to connect to VSS, pin is not connected internally", 18 MON4 (in) "Analog input for voltage rail 4.", 19 MON5 (in) "Analog input for voltage rail 5.", 20 NC "Recommended to connect to VSS, pin is not connected internally", 21 SDA (io) "I2C data. Must pull up to 3.3 V.", 22 SCL (io) "I2C clock. Must pull up to 3.3 V.", 23 EN1 (io) "Voltage rail 1 enable (digital output).", 24 EN2 (io) "Voltage rail 2 enable (digital output).", 25 EN8/ADDR1/GPO1 (io) "Voltage rail 8 enable (digital output), I2C address select 1, general-purpose digital output 1", 26 ADDR2/GPO2 (io) "I2C address select 2, general-purpose digital output 2.", 27 ADDR3/GPO3 (io) "I2C address select 3, general-purpose digital output 3.", 28 ADDR4/GPO4 (io) "I2C address select 4, general-purpose digital output 4.", 29 TEST (in) "Connect to VSS", 30 VCC (power) "Supply voltage", 31 NC "Recommended to connect to VSS, pin is not connected internally", 32 ROSC "Internal oscillator frequency adjust. Must use 100-k ohm pullup to VCC for minimum drift and maximum frequency when sampling voltage rails.", 33 EP (power) "Package Pad. Recommended to connect to VSS."

## V62/03629-01XE
designator U?
Enhanced Product Triple Processor Supervisor, 3 Supply Monitored, -55 to 125 degC, 8-pin SOIC (D), Green (RoHS & no Sb/Br); Manufacturer: Texas Instruments; PartNumber: V62/03629-01XE; # of supplies monitored: 3; Iq(Typ)(uA): 15; Output Driver Type / Reset Output: Active-low, Push-pull; Rating: HiRel Enhanced Product; Reset Threshold Accuracy(%): 2.7; SubFamily: Supervisor and Reset IC; Threshold Voltage 1 (typ)(Typ)(V): 2.93; Threshold Voltage 2 (typ)(Typ)(V): 1.68; Threshold Voltage 3 (typ)(Typ)(V): Adjustable; Time Delay(ms): 200; VCC(Max)(V): 6; VCC(Min)(V): 2; DatasheetVersion: SGLS140A; PackageVersion: revM, Jun-2011; PackageReference: D8; PackageDescription: 8-Pin Plastic Small Outline Integrated Circuit, 4.9 x 3.9 mm, Pitch 1.27 mm Pitch; Supplier 1: Newark; Supplier Part Number 1: 46M1445; Supplier 2: Mouser; Supplier Part Number 2: 595-V62/03629-01XE; Mounting Technology: Surface Mount; Code_JEDEC: MS-012AA; ComponentLink1Description: Datasheet; ComponentLink1URL: http://www.ti.com/general/docs/lit/getliterature.tsp?genericPartNumber=TPS3307-18-EP&fileType=pdf
footprint D8_N (SOIC, 8-Leads, Body 4.9x3.9mm, Pitch 1.27mm, IPC Medium Density)
footprint D8_L (SOIC, 8-Leads, Body 4.9x3.9mm, Pitch 1.27mm, IPC High Density)
footprint D8_M (SOIC, 8-Leads, Body 4.9x3.9mm, Pitch 1.27mm, IPC Low Density)
pins: 1 SENSE1 (in), 2 SENSE2 (in), 3 SENSE3 (in), 4 GND (power), 5 ~{RESET} (out), 6 RESET (out), 7 ~{MR} (in), 8 VDD (power)